# Altium footprint library con-wago.PCBLIB: 167 footprints (part 9 of 11)
Each footprint in its own frame and in the unit in brackets; x right, y up, seen from the top. Pads: shape width x height; smd on the part's side, far side on the other; paste and mask are expansions set on the pad; w line width, h text height; cw(c..) or ccw(c..) is an arc to the next point about the centre after c.
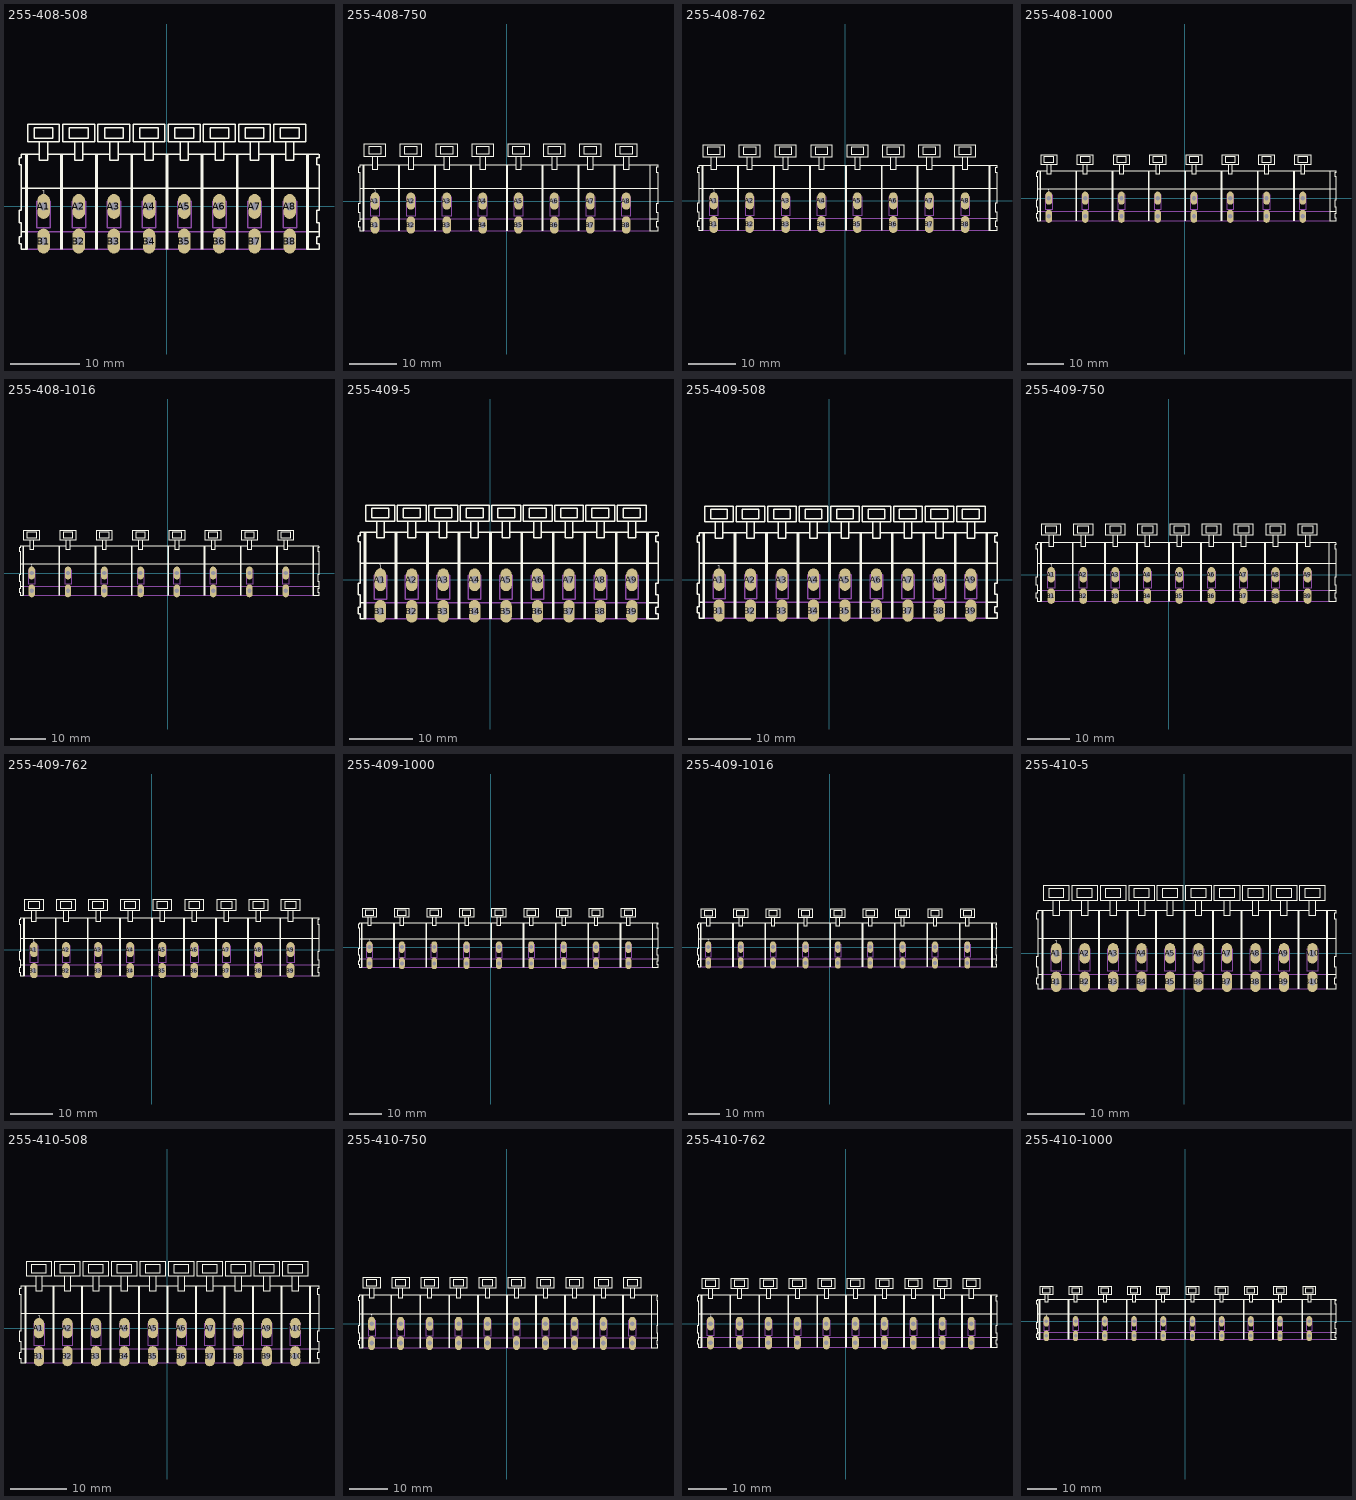
[diagram p8: the footprints below, top view; thin cyan lines are the x and y axes]

## 255-408-508 [mm]
pads (16):
  oval 1.8x3.6 hole 1.2: A1(-17.78,0) A2(-12.7,0) A3(-7.62,0) A4(-2.54,0) A5(2.54,0) A6(7.62,0) A7(12.7,0) A8(17.78,0) B1(-17.78,-5) B2(-12.7,-5) B3(-7.62,-5) B4(-2.54,-5) B5(2.54,-5) B6(7.62,-5) B7(12.7,-5) B8(17.78,-5)
Top Overlay:
  drawing of 166 lines, arcs and shapes, not listed
  text "1" at -18.03,1.35 h1.26
Mechanical 16:
  lines w0.203: -20.28,-3.65 20.26,-3.65 ; -20.13,-6.2 20.26,-6.2 ; -18.73,-3.05 -18.73,0.75 -16.78,0.75 -16.78,-3.05 -18.73,-3.05 ; -13.65,-3.05 -13.65,0.75 -11.7,0.75 -11.7,-3.05 -13.65,-3.05 ; -8.57,-3.05 -8.57,0.75 -6.62,0.75 -6.62,-3.05 -8.57,-3.05 ; -3.49,-3.05 -3.49,0.75 -1.54,0.75 -1.54,-3.05 -3.49,-3.05 ; 1.59,-3.05 1.59,0.75 3.54,0.75 3.54,-3.05 1.59,-3.05 ; 6.67,-3.05 6.67,0.75 8.62,0.75 8.62,-3.05 6.67,-3.05 ; 11.75,-3.05 11.75,0.75 13.7,0.75 13.7,-3.05 11.75,-3.05 ; 16.83,-3.05 16.83,0.75 18.78,0.75 18.78,-3.05 16.83,-3.05

## 255-408-750 [mm]
pads (16):
  oval 1.8x3.6 hole 1.2: A1(-27.5,0) A2(-20,0) A3(-12.5,0) A4(-5,0) A5(2.5,0) A6(10,0) A7(17.5,0) A8(25,0) B1(-27.5,-5) B2(-20,-5) B3(-12.5,-5) B4(-5,-5) B5(2.5,-5) B6(10,-5) B7(17.5,-5) B8(25,-5)
Top Overlay:
  drawing of 163 lines, arcs and shapes, not listed
  text "1" at -27.75,1.35 h1.26
Mechanical 16:
  lines w0.203: -30,-3.65 29.9,-3.65 ; -29.85,-6.2 29.9,-6.2 ; -28.45,-3.05 -28.45,0.75 -26.5,0.75 -26.5,-3.05 -28.45,-3.05 ; -21,-3.05 -21,0.75 -19,0.75 -19,-3.05 -21,-3.05 ; -13.5,-3.05 -13.5,0.75 -11.5,0.75 -11.5,-3.05 -13.5,-3.05 ; -6,-3.05 -6,0.75 -4,0.75 -4,-3.05 -6,-3.05 ; 1.5,-3.05 1.5,0.75 3.5,0.75 3.5,-3.05 1.5,-3.05 ; 9,-3.05 9,0.75 11,0.75 11,-3.05 9,-3.05 ; 16.5,-3.05 16.5,0.75 18.5,0.75 18.5,-3.05 16.5,-3.05 ; 24,-3.05 24,0.75 26,0.75 26,-3.05 24,-3.05

## 255-408-762 [mm]
pads (16):
  oval 1.8x3.6 hole 1.2: A1(-27.94,0) A2(-20.32,0) A3(-12.7,0) A4(-5.08,0) A5(2.54,0) A6(10.16,0) A7(17.78,0) A8(25.4,0) B1(-27.94,-5) B2(-20.32,-5) B3(-12.7,-5) B4(-5.08,-5) B5(2.54,-5) B6(10.16,-5) B7(17.78,-5) B8(25.4,-5)
Top Overlay:
  drawing of 164 lines, arcs and shapes, not listed
  text "1" at -28.19,1.35 h1.26
Mechanical 16:
  lines w0.203: -30.44,-3.65 30.42,-3.65 ; -30.29,-6.2 30.42,-6.2 ; -28.89,-3.05 -28.89,0.75 -26.94,0.75 -26.94,-3.05 -28.89,-3.05 ; -21.27,-3.05 -21.27,0.75 -19.32,0.75 -19.32,-3.05 -21.27,-3.05 ; -13.65,-3.05 -13.65,0.75 -11.7,0.75 -11.7,-3.05 -13.65,-3.05 ; -6.03,-3.05 -6.03,0.75 -4.08,0.75 -4.08,-3.05 -6.03,-3.05 ; 1.59,-3.05 1.59,0.75 3.54,0.75 3.54,-3.05 1.59,-3.05 ; 9.21,-3.05 9.21,0.75 11.16,0.75 11.16,-3.05 9.21,-3.05 ; 16.83,-3.05 16.83,0.75 18.78,0.75 18.78,-3.05 16.83,-3.05 ; 24.45,-3.05 24.45,0.75 26.4,0.75 26.4,-3.05 24.45,-3.05

## 255-408-1000 [mm]
pads (16):
  oval 1.8x3.6 hole 1.2: A1(-37.5,0) A2(-27.5,0) A3(-17.5,0) A4(-7.5,0) A5(2.5,0) A6(12.5,0) A7(22.5,0) A8(32.5,0) B1(-37.5,-5) B2(-27.5,-5) B3(-17.5,-5) B4(-7.5,-5) B5(2.5,-5) B6(12.5,-5) B7(22.5,-5) B8(32.5,-5)
Top Overlay:
  drawing of 163 lines, arcs and shapes, not listed
  text "1" at -37.75,1.35 h1.26
Mechanical 16:
  lines w0.203: -40,-3.65 39.9,-3.65 ; -39.85,-6.2 39.9,-6.2 ; -38.45,-3.05 -38.45,0.75 -36.5,0.75 -36.5,-3.05 -38.45,-3.05 ; -28.5,-3.05 -28.5,0.75 -26.5,0.75 -26.5,-3.05 -28.5,-3.05 ; -18.5,-3.05 -18.5,0.75 -16.5,0.75 -16.5,-3.05 -18.5,-3.05 ; -8.5,-3.05 -8.5,0.75 -6.5,0.75 -6.5,-3.05 -8.5,-3.05 ; 1.5,-3.05 1.5,0.75 3.5,0.75 3.5,-3.05 1.5,-3.05 ; 11.5,-3.05 11.5,0.75 13.5,0.75 13.5,-3.05 11.5,-3.05 ; 21.5,-3.05 21.5,0.75 23.5,0.75 23.5,-3.05 21.5,-3.05 ; 31.5,-3.05 31.5,0.75 33.5,0.75 33.5,-3.05 31.5,-3.05

## 255-408-1016 [mm]
pads (16):
  oval 1.8x3.6 hole 1.2: A1(-38.1,0) A2(-27.94,0) A3(-17.78,0) A4(-7.62,0) A5(2.54,0) A6(12.7,0) A7(22.86,0) A8(33.02,0) B1(-38.1,-5) B2(-27.94,-5) B3(-17.78,-5) B4(-7.62,-5) B5(2.54,-5) B6(12.7,-5) B7(22.86,-5) B8(33.02,-5)
Top Overlay:
  drawing of 164 lines, arcs and shapes, not listed
  text "1" at -38.35,1.35 h1.26
Mechanical 16:
  lines w0.203: -40.6,-3.65 40.58,-3.65 ; -40.45,-6.2 40.58,-6.2 ; -39.05,-3.05 -39.05,0.75 -37.1,0.75 -37.1,-3.05 -39.05,-3.05 ; -28.89,-3.05 -28.89,0.75 -26.94,0.75 -26.94,-3.05 -28.89,-3.05 ; -18.73,-3.05 -18.73,0.75 -16.78,0.75 -16.78,-3.05 -18.73,-3.05 ; -8.57,-3.05 -8.57,0.75 -6.62,0.75 -6.62,-3.05 -8.57,-3.05 ; 1.59,-3.05 1.59,0.75 3.54,0.75 3.54,-3.05 1.59,-3.05 ; 11.75,-3.05 11.75,0.75 13.7,0.75 13.7,-3.05 11.75,-3.05 ; 21.91,-3.05 21.91,0.75 23.86,0.75 23.86,-3.05 21.91,-3.05 ; 32.07,-3.05 32.07,0.75 34.02,0.75 34.02,-3.05 32.07,-3.05

## 255-409-5 [mm]
pads (18):
  oval 1.8x3.6 hole 1.2: A1(-17.5,0) A2(-12.5,0) A3(-7.5,0) A4(-2.5,0) A5(2.5,0) A6(7.5,0) A7(12.5,0) A8(17.5,0) A9(22.5,0) B1(-17.5,-5) B2(-12.5,-5) B3(-7.5,-5) B4(-2.5,-5) B5(2.5,-5) B6(7.5,-5) B7(12.5,-5) B8(17.5,-5) B9(22.5,-5)
Top Overlay:
  drawing of 216 lines, arcs and shapes, not listed
  text "1" at -17.75,1.35 h1.26
Mechanical 16:
  lines w0.203: -20,-3.65 24.9,-3.65 ; -19.85,-6.2 24.9,-6.2 ; -18.45,-3.05 -18.45,0.75 -16.5,0.75 -16.5,-3.05 -18.45,-3.05 ; -13.5,-3.05 -13.5,0.75 -11.5,0.75 -11.5,-3.05 -13.5,-3.05 ; -8.5,-3.05 -8.5,0.75 -6.5,0.75 -6.5,-3.05 -8.5,-3.05 ; -3.5,-3.05 -3.5,0.75 -1.5,0.75 -1.5,-3.05 -3.5,-3.05 ; 1.5,-3.05 1.5,0.75 3.5,0.75 3.5,-3.05 1.5,-3.05 ; 6.5,-3.05 6.5,0.75 8.5,0.75 8.5,-3.05 6.5,-3.05 ; 11.5,-3.05 11.5,0.75 13.5,0.75 13.5,-3.05 11.5,-3.05 ; 16.5,-3.05 16.5,0.75 18.5,0.75 18.5,-3.05 16.5,-3.05 ; 21.5,-3.05 21.5,0.75 23.5,0.75 23.5,-3.05 21.5,-3.05

## 255-409-508 [mm]
pads (18):
  oval 1.8x3.6 hole 1.2: A1(-17.78,0) A2(-12.7,0) A3(-7.62,0) A4(-2.54,0) A5(2.54,0) A6(7.62,0) A7(12.7,0) A8(17.78,0) A9(22.86,0) B1(-17.78,-5) B2(-12.7,-5) B3(-7.62,-5) B4(-2.54,-5) B5(2.54,-5) B6(7.62,-5) B7(12.7,-5) B8(17.78,-5) B9(22.86,-5)
Top Overlay:
  drawing of 182 lines, arcs and shapes, not listed
  text "1" at -18.03,1.35 h1.26
Mechanical 16:
  lines w0.203: -20.28,-3.65 25.34,-3.65 ; -20.13,-6.2 25.34,-6.2 ; -18.73,-3.05 -18.73,0.75 -16.78,0.75 -16.78,-3.05 -18.73,-3.05 ; -13.65,-3.05 -13.65,0.75 -11.7,0.75 -11.7,-3.05 -13.65,-3.05 ; -8.57,-3.05 -8.57,0.75 -6.62,0.75 -6.62,-3.05 -8.57,-3.05 ; -3.49,-3.05 -3.49,0.75 -1.54,0.75 -1.54,-3.05 -3.49,-3.05 ; 1.59,-3.05 1.59,0.75 3.54,0.75 3.54,-3.05 1.59,-3.05 ; 6.67,-3.05 6.67,0.75 8.62,0.75 8.62,-3.05 6.67,-3.05 ; 11.75,-3.05 11.75,0.75 13.7,0.75 13.7,-3.05 11.75,-3.05 ; 16.83,-3.05 16.83,0.75 18.78,0.75 18.78,-3.05 16.83,-3.05 ; 21.91,-3.05 21.91,0.75 23.86,0.75 23.86,-3.05 21.91,-3.05

## 255-409-750 [mm]
pads (18):
  oval 1.8x3.6 hole 1.2: A1(-27.5,0) A2(-20,0) A3(-12.5,0) A4(-5,0) A5(2.5,0) A6(10,0) A7(17.5,0) A8(25,0) A9(32.5,0) B1(-27.5,-5) B2(-20,-5) B3(-12.5,-5) B4(-5,-5) B5(2.5,-5) B6(10,-5) B7(17.5,-5) B8(25,-5) B9(32.5,-5)
Top Overlay:
  drawing of 179 lines, arcs and shapes, not listed
  text "1" at -27.75,1.35 h1.26
Mechanical 16:
  lines w0.203: -30,-3.65 37.4,-3.65 ; -29.85,-6.2 37.4,-6.2 ; -28.45,-3.05 -28.45,0.75 -26.5,0.75 -26.5,-3.05 -28.45,-3.05 ; -21,-3.05 -21,0.75 -19,0.75 -19,-3.05 -21,-3.05 ; -13.5,-3.05 -13.5,0.75 -11.5,0.75 -11.5,-3.05 -13.5,-3.05 ; -6,-3.05 -6,0.75 -4,0.75 -4,-3.05 -6,-3.05 ; 1.5,-3.05 1.5,0.75 3.5,0.75 3.5,-3.05 1.5,-3.05 ; 9,-3.05 9,0.75 11,0.75 11,-3.05 9,-3.05 ; 16.5,-3.05 16.5,0.75 18.5,0.75 18.5,-3.05 16.5,-3.05 ; 24,-3.05 24,0.75 26,0.75 26,-3.05 24,-3.05 ; 31.5,-3.05 31.5,0.75 33.5,0.75 33.5,-3.05 31.5,-3.05

## 255-409-762 [mm]
pads (18):
  oval 1.8x3.6 hole 1.2: A1(-27.94,0) A2(-20.32,0) A3(-12.7,0) A4(-5.08,0) A5(2.54,0) A6(10.16,0) A7(17.78,0) A8(25.4,0) A9(33.02,0) B1(-27.94,-5) B2(-20.32,-5) B3(-12.7,-5) B4(-5.08,-5) B5(2.54,-5) B6(10.16,-5) B7(17.78,-5) B8(25.4,-5) B9(33.02,-5)
Top Overlay:
  drawing of 180 lines, arcs and shapes, not listed
  text "1" at -28.19,1.35 h1.26
Mechanical 16:
  lines w0.203: -30.44,-3.65 38.04,-3.65 ; -30.29,-6.2 38.04,-6.2 ; -28.89,-3.05 -28.89,0.75 -26.94,0.75 -26.94,-3.05 -28.89,-3.05 ; -21.27,-3.05 -21.27,0.75 -19.32,0.75 -19.32,-3.05 -21.27,-3.05 ; -13.65,-3.05 -13.65,0.75 -11.7,0.75 -11.7,-3.05 -13.65,-3.05 ; -6.03,-3.05 -6.03,0.75 -4.08,0.75 -4.08,-3.05 -6.03,-3.05 ; 1.59,-3.05 1.59,0.75 3.54,0.75 3.54,-3.05 1.59,-3.05 ; 9.21,-3.05 9.21,0.75 11.16,0.75 11.16,-3.05 9.21,-3.05 ; 16.83,-3.05 16.83,0.75 18.78,0.75 18.78,-3.05 16.83,-3.05 ; 24.45,-3.05 24.45,0.75 26.4,0.75 26.4,-3.05 24.45,-3.05 ; 32.07,-3.05 32.07,0.75 34.02,0.75 34.02,-3.05 32.07,-3.05

## 255-409-1000 [mm]
pads (18):
  oval 1.8x3.6 hole 1.2: A1(-37.5,0) A2(-27.5,0) A3(-17.5,0) A4(-7.5,0) A5(2.5,0) A6(12.5,0) A7(22.5,0) A8(32.5,0) A9(42.5,0) B1(-37.5,-5) B2(-27.5,-5) B3(-17.5,-5) B4(-7.5,-5) B5(2.5,-5) B6(12.5,-5) B7(22.5,-5) B8(32.5,-5) B9(42.5,-5)
Top Overlay:
  drawing of 179 lines, arcs and shapes, not listed
  text "1" at -37.75,1.35 h1.26
Mechanical 16:
  lines w0.203: -40,-3.65 49.9,-3.65 ; -39.85,-6.2 49.9,-6.2 ; -38.45,-3.05 -38.45,0.75 -36.5,0.75 -36.5,-3.05 -38.45,-3.05 ; -28.5,-3.05 -28.5,0.75 -26.5,0.75 -26.5,-3.05 -28.5,-3.05 ; -18.5,-3.05 -18.5,0.75 -16.5,0.75 -16.5,-3.05 -18.5,-3.05 ; -8.5,-3.05 -8.5,0.75 -6.5,0.75 -6.5,-3.05 -8.5,-3.05 ; 1.5,-3.05 1.5,0.75 3.5,0.75 3.5,-3.05 1.5,-3.05 ; 11.5,-3.05 11.5,0.75 13.5,0.75 13.5,-3.05 11.5,-3.05 ; 21.5,-3.05 21.5,0.75 23.5,0.75 23.5,-3.05 21.5,-3.05 ; 31.5,-3.05 31.5,0.75 33.5,0.75 33.5,-3.05 31.5,-3.05 ; 41.5,-3.05 41.5,0.75 43.5,0.75 43.5,-3.05 41.5,-3.05

## 255-409-1016 [mm]
pads (18):
  oval 1.8x3.6 hole 1.2: A1(-38.1,0) A2(-27.94,0) A3(-17.78,0) A4(-7.62,0) A5(2.54,0) A6(12.7,0) A7(22.86,0) A8(33.02,0) A9(43.18,0) B1(-38.1,-5) B2(-27.94,-5) B3(-17.78,-5) B4(-7.62,-5) B5(2.54,-5) B6(12.7,-5) B7(22.86,-5) B8(33.02,-5) B9(43.18,-5)
Top Overlay:
  drawing of 180 lines, arcs and shapes, not listed
  text "1" at -38.35,1.35 h1.26
Mechanical 16:
  lines w0.203: -40.6,-3.65 50.74,-3.65 ; -40.45,-6.2 50.74,-6.2 ; -39.05,-3.05 -39.05,0.75 -37.1,0.75 -37.1,-3.05 -39.05,-3.05 ; -28.89,-3.05 -28.89,0.75 -26.94,0.75 -26.94,-3.05 -28.89,-3.05 ; -18.73,-3.05 -18.73,0.75 -16.78,0.75 -16.78,-3.05 -18.73,-3.05 ; -8.57,-3.05 -8.57,0.75 -6.62,0.75 -6.62,-3.05 -8.57,-3.05 ; 1.59,-3.05 1.59,0.75 3.54,0.75 3.54,-3.05 1.59,-3.05 ; 11.75,-3.05 11.75,0.75 13.7,0.75 13.7,-3.05 11.75,-3.05 ; 21.91,-3.05 21.91,0.75 23.86,0.75 23.86,-3.05 21.91,-3.05 ; 32.07,-3.05 32.07,0.75 34.02,0.75 34.02,-3.05 32.07,-3.05 ; 42.23,-3.05 42.23,0.75 44.18,0.75 44.18,-3.05 42.23,-3.05

## 255-410-5 [mm]
pads (20):
  oval 1.8x3.6 hole 1.2: A1(-22.5,0) A2(-17.5,0) A3(-12.5,0) A4(-7.5,0) A5(-2.5,0) A6(2.5,0) A7(7.5,0) A8(12.5,0) A9(17.5,0) A10(22.5,0) B1(-22.5,-5) B2(-17.5,-5) B3(-12.5,-5) B4(-7.5,-5) B5(-2.5,-5) B6(2.5,-5) B7(7.5,-5) B8(12.5,-5) B9(17.5,-5) B10(22.5,-5)
Top Overlay:
  drawing of 236 lines, arcs and shapes, not listed
  text "1" at -22.75,1.35 h1.26
Mechanical 16:
  lines w0.203: -25,-3.65 24.9,-3.65 ; -24.85,-6.2 24.9,-6.2 ; -23.45,-3.05 -23.45,0.75 -21.5,0.75 -21.5,-3.05 -23.45,-3.05 ; -18.5,-3.05 -18.5,0.75 -16.5,0.75 -16.5,-3.05 -18.5,-3.05 ; -13.5,-3.05 -13.5,0.75 -11.5,0.75 -11.5,-3.05 -13.5,-3.05 ; -8.5,-3.05 -8.5,0.75 -6.5,0.75 -6.5,-3.05 -8.5,-3.05 ; -3.5,-3.05 -3.5,0.75 -1.5,0.75 -1.5,-3.05 -3.5,-3.05 ; 1.5,-3.05 1.5,0.75 3.5,0.75 3.5,-3.05 1.5,-3.05 ; 6.5,-3.05 6.5,0.75 8.5,0.75 8.5,-3.05 6.5,-3.05 ; 11.5,-3.05 11.5,0.75 13.5,0.75 13.5,-3.05 11.5,-3.05 ; 16.5,-3.05 16.5,0.75 18.5,0.75 18.5,-3.05 16.5,-3.05 ; 21.5,-3.05 21.5,0.75 23.5,0.75 23.5,-3.05 21.5,-3.05

## 255-410-508 [mm]
pads (20):
  oval 1.8x3.6 hole 1.2: A1(-22.86,0) A2(-17.78,0) A3(-12.7,0) A4(-7.62,0) A5(-2.54,0) A6(2.54,0) A7(7.62,0) A8(12.7,0) A9(17.78,0) A10(22.86,0) B1(-22.86,-5) B2(-17.78,-5) B3(-12.7,-5) B4(-7.62,-5) B5(-2.54,-5) B6(2.54,-5) B7(7.62,-5) B8(12.7,-5) B9(17.78,-5) B10(22.86,-5)
Top Overlay:
  drawing of 198 lines, arcs and shapes, not listed
  text "1" at -23.11,1.35 h1.26
Mechanical 16:
  lines w0.203: -25.36,-3.65 25.34,-3.65 ; -25.21,-6.2 25.34,-6.2 ; -23.81,-3.05 -23.81,0.75 -21.86,0.75 -21.86,-3.05 -23.81,-3.05 ; -18.73,-3.05 -18.73,0.75 -16.78,0.75 -16.78,-3.05 -18.73,-3.05 ; -13.65,-3.05 -13.65,0.75 -11.7,0.75 -11.7,-3.05 -13.65,-3.05 ; -8.57,-3.05 -8.57,0.75 -6.62,0.75 -6.62,-3.05 -8.57,-3.05 ; -3.49,-3.05 -3.49,0.75 -1.54,0.75 -1.54,-3.05 -3.49,-3.05 ; 1.59,-3.05 1.59,0.75 3.54,0.75 3.54,-3.05 1.59,-3.05 ; 6.67,-3.05 6.67,0.75 8.62,0.75 8.62,-3.05 6.67,-3.05 ; 11.75,-3.05 11.75,0.75 13.7,0.75 13.7,-3.05 11.75,-3.05 ; 16.83,-3.05 16.83,0.75 18.78,0.75 18.78,-3.05 16.83,-3.05 ; 21.91,-3.05 21.91,0.75 23.86,0.75 23.86,-3.05 21.91,-3.05

## 255-410-750 [mm]
pads (20):
  oval 1.8x3.6 hole 1.2: A1(-35,0) A2(-27.5,0) A3(-20,0) A4(-12.5,0) A5(-5,0) A6(2.5,0) A7(10,0) A8(17.5,0) A9(25,0) A10(32.5,0) B1(-35,-5) B2(-27.5,-5) B3(-20,-5) B4(-12.5,-5) B5(-5,-5) B6(2.5,-5) B7(10,-5) B8(17.5,-5) B9(25,-5) B10(32.5,-5)
Top Overlay:
  drawing of 195 lines, arcs and shapes, not listed
  text "1" at -35.25,1.35 h1.26
Mechanical 16:
  lines w0.203: -37.5,-3.65 37.4,-3.65 ; -37.35,-6.2 37.4,-6.2 ; -35.95,-3.05 -35.95,0.75 -34,0.75 -34,-3.05 -35.95,-3.05 ; -28.5,-3.05 -28.5,0.75 -26.5,0.75 -26.5,-3.05 -28.5,-3.05 ; -21,-3.05 -21,0.75 -19,0.75 -19,-3.05 -21,-3.05 ; -13.5,-3.05 -13.5,0.75 -11.5,0.75 -11.5,-3.05 -13.5,-3.05 ; -6,-3.05 -6,0.75 -4,0.75 -4,-3.05 -6,-3.05 ; 1.5,-3.05 1.5,0.75 3.5,0.75 3.5,-3.05 1.5,-3.05 ; 9,-3.05 9,0.75 11,0.75 11,-3.05 9,-3.05 ; 16.5,-3.05 16.5,0.75 18.5,0.75 18.5,-3.05 16.5,-3.05 ; 24,-3.05 24,0.75 26,0.75 26,-3.05 24,-3.05 ; 31.5,-3.05 31.5,0.75 33.5,0.75 33.5,-3.05 31.5,-3.05

## 255-410-762 [mm]
pads (20):
  oval 1.8x3.6 hole 1.2: A1(-35.56,0) A2(-27.94,0) A3(-20.32,0) A4(-12.7,0) A5(-5.08,0) A6(2.54,0) A7(10.16,0) A8(17.78,0) A9(25.4,0) A10(33.02,0) B1(-35.56,-5) B2(-27.94,-5) B3(-20.32,-5) B4(-12.7,-5) B5(-5.08,-5) B6(2.54,-5) B7(10.16,-5) B8(17.78,-5) B9(25.4,-5) B10(33.02,-5)
Top Overlay:
  drawing of 196 lines, arcs and shapes, not listed
  text "1" at -35.81,1.35 h1.26
Mechanical 16:
  lines w0.203: -38.06,-3.65 38.04,-3.65 ; -37.91,-6.2 38.04,-6.2 ; -36.51,-3.05 -36.51,0.75 -34.56,0.75 -34.56,-3.05 -36.51,-3.05 ; -28.89,-3.05 -28.89,0.75 -26.94,0.75 -26.94,-3.05 -28.89,-3.05 ; -21.27,-3.05 -21.27,0.75 -19.32,0.75 -19.32,-3.05 -21.27,-3.05 ; -13.65,-3.05 -13.65,0.75 -11.7,0.75 -11.7,-3.05 -13.65,-3.05 ; -6.03,-3.05 -6.03,0.75 -4.08,0.75 -4.08,-3.05 -6.03,-3.05 ; 1.59,-3.05 1.59,0.75 3.54,0.75 3.54,-3.05 1.59,-3.05 ; 9.21,-3.05 9.21,0.75 11.16,0.75 11.16,-3.05 9.21,-3.05 ; 16.83,-3.05 16.83,0.75 18.78,0.75 18.78,-3.05 16.83,-3.05 ; 24.45,-3.05 24.45,0.75 26.4,0.75 26.4,-3.05 24.45,-3.05 ; 32.07,-3.05 32.07,0.75 34.02,0.75 34.02,-3.05 32.07,-3.05

## 255-410-1000 [mm]
pads (20):
  oval 1.8x3.6 hole 1.2: A1(-47.5,0) A2(-37.5,0) A3(-27.5,0) A4(-17.5,0) A5(-7.5,0) A6(2.5,0) A7(12.5,0) A8(22.5,0) A9(32.5,0) A10(42.5,0) B1(-47.5,-5) B2(-37.5,-5) B3(-27.5,-5) B4(-17.5,-5) B5(-7.5,-5) B6(2.5,-5) B7(12.5,-5) B8(22.5,-5) B9(32.5,-5) B10(42.5,-5)
Top Overlay:
  drawing of 195 lines, arcs and shapes, not listed
  text "1" at -47.75,1.35 h1.26
Mechanical 16:
  lines w0.203: -50,-3.65 49.9,-3.65 ; -49.85,-6.2 49.9,-6.2 ; -48.45,-3.05 -48.45,0.75 -46.5,0.75 -46.5,-3.05 -48.45,-3.05 ; -38.5,-3.05 -38.5,0.75 -36.5,0.75 -36.5,-3.05 -38.5,-3.05 ; -28.5,-3.05 -28.5,0.75 -26.5,0.75 -26.5,-3.05 -28.5,-3.05 ; -18.5,-3.05 -18.5,0.75 -16.5,0.75 -16.5,-3.05 -18.5,-3.05 ; -8.5,-3.05 -8.5,0.75 -6.5,0.75 -6.5,-3.05 -8.5,-3.05 ; 1.5,-3.05 1.5,0.75 3.5,0.75 3.5,-3.05 1.5,-3.05 ; 11.5,-3.05 11.5,0.75 13.5,0.75 13.5,-3.05 11.5,-3.05 ; 21.5,-3.05 21.5,0.75 23.5,0.75 23.5,-3.05 21.5,-3.05 ; 31.5,-3.05 31.5,0.75 33.5,0.75 33.5,-3.05 31.5,-3.05 ; 41.5,-3.05 41.5,0.75 43.5,0.75 43.5,-3.05 41.5,-3.05